# Altium footprint library LED.PcbLib: 10 footprints
Each footprint in its own frame and in the unit in brackets; x right, y up, seen from the top. Pads: shape width x height; smd on the part's side, far side on the other; paste and mask are expansions set on the pad; w line width, h text height; cw(c..) or ccw(c..) is an arc to the next point about the centre after c.
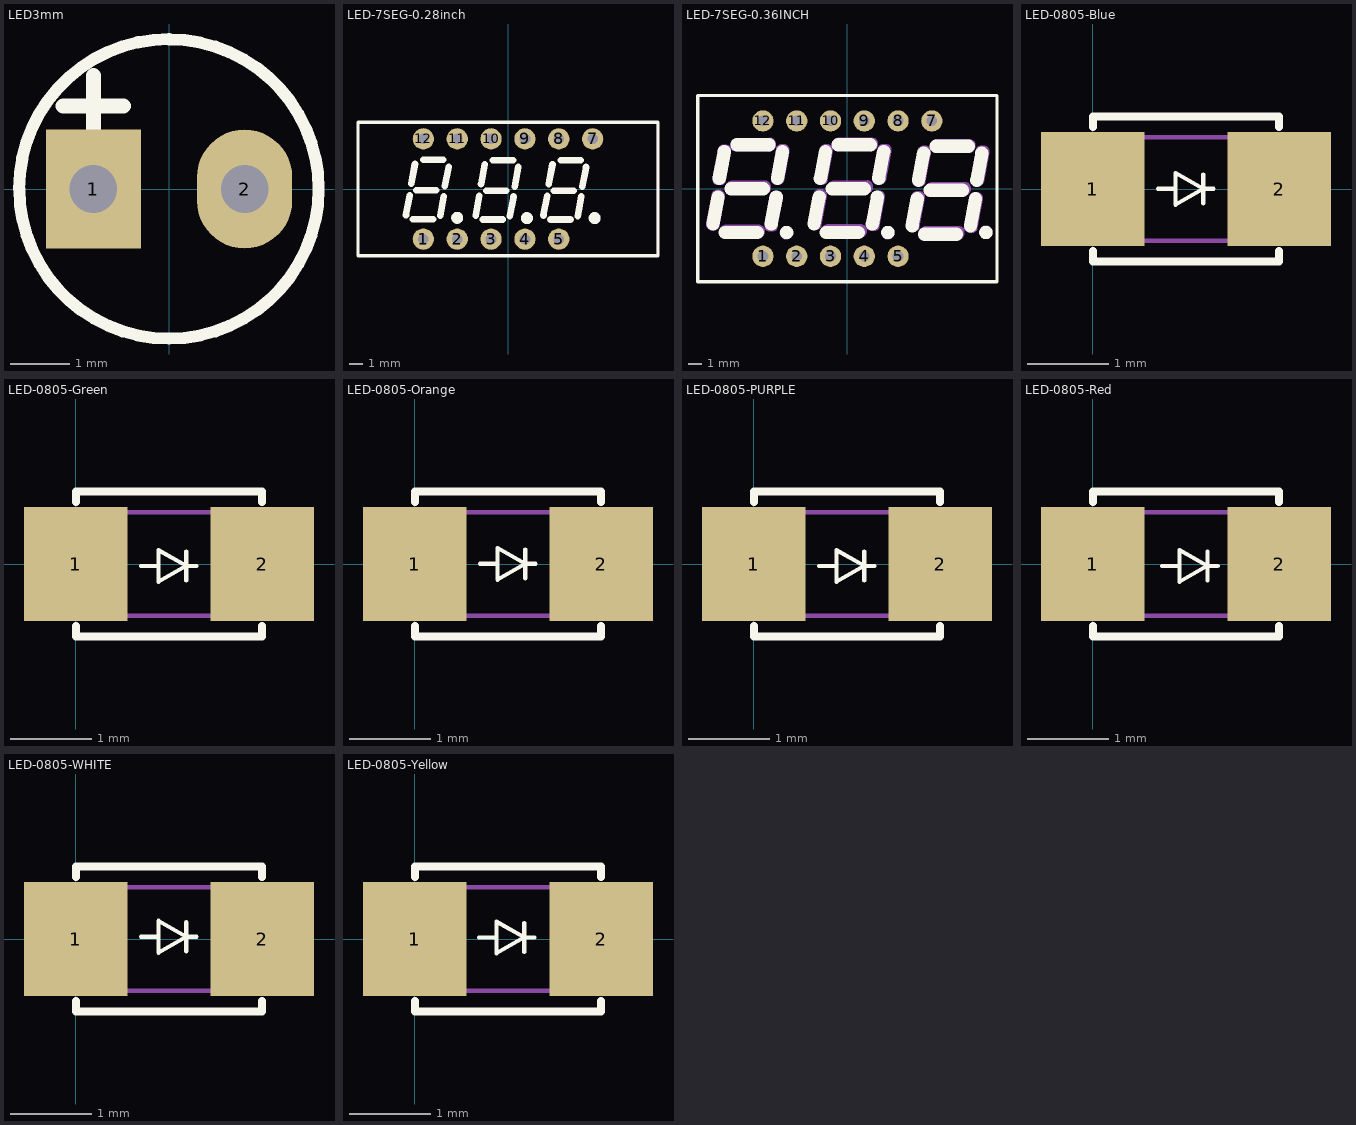
[diagram p0: the footprints below, top view; thin cyan lines are the x and y axes]

## LED3mm [mm]
pads (2):
  rect 1.6x2 hole 0.8: 1(-1.27,0)
  oval 1.6x2 hole 0.8: 2(1.27,0)
Top Overlay:
  lines w0.203: -2.521,0 cw(c0,0) 0,2.521 ; -2.514,0 ccw(c0,0) 0,-2.514 ccw(c0,0) 2.514,0 ccw(c0,0) 0,2.514
  lines w0.254: -1.778,1.397 -0.762,1.397 ; -1.27,0.889 -1.27,1.905
Mechanical 29:
  text "'.Designator'" at -2.159,-0.457 h1.52
3D body "SW3DPS-REDLED-DIP.step": height 5.38, standoff -3.17, extent -1.994,-1.498 1.994,1.994

## LED-7SEG-0.28inch [mm]
pads (11):
  round 1.6 hole 0.8: 1(-6.35,-3.76) 2(-3.81,-3.76) 3(-1.27,-3.76) 4(1.27,-3.76) 5(3.81,-3.76) 7(6.35,3.76) 8(3.81,3.76) 9(1.27,3.76) 10(-1.27,3.76) 11(-3.81,3.76) 12(-6.35,3.76)
Top Overlay:
  circle w0.5: c6.5,-2.184 r0.2
  circle w0.5: c1.42,-2.184 r0.2
  circle w0.5: c-3.81,-2.159 r0.2
  lines w0.254: -11.25,-5 11.25,-5 11.25,5 -11.25,5 -11.25,-5
  lines w0.5: -7.654,-1.957 -7.377,-0.483 ; -7.25,0.406 -6.974,1.88 ; -7.123,-2.261 -5.623,-2.261 ; -6.869,-0.102 -5.369,-0.102 ; -6.361,2.184 -4.861,2.184 ; -5.091,-2.007 -4.815,-0.533 ; -4.733,0.202 -4.456,1.676 ; -2.423,-1.982 -2.147,-0.508 ; -2.02,0.381 -1.744,1.855 ; -1.893,-2.286 -0.393,-2.286 ; -1.639,-0.127 -0.139,-0.127 ; -1.131,2.159 0.369,2.159 ; 0.139,-2.032 0.415,-0.558 ; 0.498,0.177 0.774,1.651 ; 2.657,-1.982 2.933,-0.508 ; 3.06,0.381 3.336,1.855 ; 3.187,-2.286 4.687,-2.286 ; 3.441,-0.127 4.941,-0.127 ; 3.949,2.159 5.449,2.159 ; 5.219,-2.032 5.495,-0.558 ; 5.578,0.177 5.854,1.651
Mechanical 15:
  drawing of 15 lines, arcs and shapes, not listed
Mechanical 29:
  text "'.Designator'" at -6.883,-0.254 h1.52
3D body "LDT-N2804RI--3DModel-STEP-510211.STEP": height 6.1, standoff -4.5, extent -11.265,-4.873 11.265,5.127

## LED-7SEG-0.36INCH [mm]
pads (11):
  round 1.6 hole 0.8: 1(-6.35,-5.09) 2(-3.81,-5.09) 3(-1.27,-5.09) 4(1.27,-5.09) 5(3.81,-5.09) 7(6.35,5.09) 8(3.81,5.09) 9(1.27,5.09) 10(-1.27,5.09) 11(-3.81,5.09) 12(-6.35,5.09)
Top Overlay:
  circle w0.5: c-4.572,-3.302 r0.254
  circle w0.5: c3.048,-3.302 r0.254
  circle w0.5: c10.414,-3.302 r0.254
  lines w0.254: -11.25,-7 -11.25,7 11.25,7 11.25,-7 -11.25,-7
  lines w1: -10.112,-2.667 -9.731,-0.635 ; -9.636,0.762 -9.255,2.794 ; -9.192,-3.302 -6.779,-3.302 ; -8.747,0 -6.334,0 ; -8.303,3.302 -5.89,3.302 ; -5.731,-2.667 -5.35,-0.635 ; -5.255,0.762 -4.874,2.794 ; -2.508,-2.667 -2.127,-0.635 ; -2.032,0.762 -1.651,2.794 ; -1.587,-3.302 0.826,-3.302 ; -1.143,0 1.27,0 ; -0.699,3.302 1.714,3.302 ; 1.873,-2.667 2.254,-0.635 ; 2.349,0.762 2.73,2.794 ; 4.874,-2.794 5.255,-0.762 ; 5.35,0.635 5.731,2.667 ; 5.794,-3.429 8.207,-3.429 ; 6.239,-0.127 8.652,-0.127 ; 6.683,3.175 9.096,3.175 ; 9.255,-2.794 9.636,-0.762 ; 9.731,0.635 10.112,2.667
Mechanical 1:
  drawing of 30 lines, arcs and shapes, not listed
Mechanical 15:
  drawing of 16 lines, arcs and shapes, not listed
Mechanical 29:
  text "'.Designator'" at -6.883,-0.254 h1.52
3D body "LDT-N2804RI--3DModel-STEP-510211.STEP": height 6.1, standoff -4.5, extent -11.176,-4.92 11.354,5.08

## LED-0805-Blue [mil]
pads (2):
  rect 50x55 smd: 1(0,0) 2(90,0)
Top Overlay:
  lines w2.01: 31.46,0.09 39.84,0.09 ; 53.34,-6.91 53.34,0.09 ; 53.34,7.09 53.34,0.09 ; 58.34,0.09 53.34,0.09 ; 53.34,0.09 39.84,-7.62 39.84,7.8 53.34,0.09
  lines w4: 0,-30 0,-35 90,-35 90,-30 ; 0,30 0,35 90,35 90,30
Mechanical 15:
  lines w2.01: 5,-25 85,-25 85,25 5,25 5,-25
Mechanical 29:
  text "'.Designator'" at -21.06,-9.5 h19.68
3D body "User Library-led_0805-blue.step": height 43.31, standoff 0, extent 5.23,-24.61 84.75,24.6

## LED-0805-Green [mil]
pads (2):
  rect 50x55 smd: 1(0,0) 2(90,0)
Top Overlay:
  lines w2.01: 31.46,-0.91 39.84,-0.91 ; 53.34,-7.91 53.34,-0.91 ; 53.34,6.09 53.34,-0.91 ; 58.34,-0.91 53.34,-0.91 ; 53.34,-0.91 39.84,-8.62 39.84,6.8 53.34,-0.91
  lines w4: 0,-30 0,-35 90,-35 90,-30 ; 0,30 0,35 90,35 90,30
Mechanical 15:
  lines w2.01: 5,-25 85,-25 85,25 5,25 5,-25
Mechanical 29:
  text "'.Designator'" at -26.06,-4.5 h19.68
3D body "User Library-led_0805-Green.step": height 43.31, standoff 0, extent 5.23,-24.61 84.76,24.6

## LED-0805-Orange [mil]
pads (2):
  rect 50x55 smd: 1(0,0) 2(90,0)
Top Overlay:
  lines w2.01: 31.46,0.09 39.84,0.09 ; 53.34,-6.91 53.34,0.09 ; 53.34,7.09 53.34,0.09 ; 58.34,0.09 53.34,0.09 ; 53.34,0.09 39.84,-7.62 39.84,7.8 53.34,0.09
  lines w4: 0,-30 0,-35 90,-35 90,-30 ; 0,30 0,35 90,35 90,30
Mechanical 15:
  lines w2.01: 5,-25 85,-25 85,25 5,25 5,-25
Mechanical 29:
  text "'.Designator'" at -26.06,-4.5 h19.68
3D body "User Library-led_0805-orange.step": height 43.31, standoff 0, extent 5.23,-24.61 84.76,24.6

## LED-0805-PURPLE [mil]
pads (2):
  rect 50x55 smd: 1(0,0) 2(90,0)
Top Overlay:
  lines w2.01: 31.46,-0.91 39.84,-0.91 ; 53.34,-7.91 53.34,-0.91 ; 53.34,6.09 53.34,-0.91 ; 58.34,-0.91 53.34,-0.91 ; 53.34,-0.91 39.84,-8.62 39.84,6.8 53.34,-0.91
  lines w4: 0,-30 0,-35 90,-35 90,-30 ; 0,30 0,35 90,35 90,30
Mechanical 15:
  lines w2.01: 5,-25 5,25 85,25 85,-25 5,-25
Mechanical 29:
  text "'.Designator'" at -26.06,-4.5 h19.68
3D body "User Library-led_0805-orange.step": height 43.31, standoff 0, extent 5.23,-24.61 84.76,24.6

## LED-0805-Red [mil]
pads (2):
  rect 50x55 smd: 1(0,0) 2(90,0)
Top Overlay:
  lines w2.01: 33.46,-0.91 41.84,-0.91 ; 55.34,-7.91 55.34,-0.91 ; 55.34,6.09 55.34,-0.91 ; 60.34,-0.91 55.34,-0.91 ; 55.34,-0.91 41.84,6.8 41.84,-8.62 55.34,-0.91
  lines w4: 0,-30 0,-35 90,-35 90,-30 ; 0,30 0,35 90,35 90,30
Mechanical 15:
  lines w2.01: 5,-25 85,-25 85,25 5,25 5,-25
Mechanical 29:
  text "'.Designator'" at -26.06,-4.5 h19.68
3D body "User Library-led_0805-red.step": height 43.31, standoff 0, extent 5.23,-24.61 84.76,24.6

## LED-0805-WHITE [mil]
pads (2):
  rect 50x55 smd: 1(0,0) 2(90,0)
Top Overlay:
  lines w2.01: 31.46,1.09 39.84,1.09 ; 53.34,-5.91 53.34,1.09 ; 53.34,8.09 53.34,1.09 ; 58.34,1.09 53.34,1.09 ; 53.34,1.09 39.84,-6.62 39.84,8.8 53.34,1.09
  lines w4: 0,-30 0,-35 90,-35 90,-30 ; 0,30 0,35 90,35 90,30
Mechanical 15:
  lines w2.01: 5,-25 85,-25 85,25 5,25 5,-25
Mechanical 29:
  text "'.Designator'" at -21.06,-9.5 h19.68
3D body "SML-LX0805UWC-TR.STEP": height 39.37, standoff 0, extent 5.63,-24.6 84.37,24.6

## LED-0805-Yellow [mil]
pads (2):
  rect 50x55 smd: 1(0,0) 2(90,0)
Top Overlay:
  lines w2.01: 31,0.78 39.38,0.78 ; 52.87,-6.22 52.87,0.78 ; 52.87,7.78 52.87,0.78 ; 57.87,0.78 52.87,0.78 ; 52.87,0.78 39.38,-6.93 39.38,8.49 52.87,0.78
  lines w4: 0,-30 0,-35 90,-35 90,-30 ; 0,30 0,35 90,35 90,30
Mechanical 15:
  lines w2.01: 5,-25 5,25 85,25 85,-25 5,-25
Mechanical 29:
  text "'.Designator'" at -26.06,-4.5 h19.68
3D body "User Library-led_0805-yellow.step": height 43.31, standoff 0, extent 5.23,-24.61 84.76,24.6